# EAGLE library part UC_ATSAMD11C14A-SSUT (library fab)
MCU 32-Bit SAM D11 ARM Cortex M0+ RISC 16KB Flash 1.8V/2.5V/3.3V 14-Pin SOIC T/R Check prices <https://pricing.snapeda.com/parts/ATSAMD11C14A-SSUT/Microchip/view-part?ref=eda>
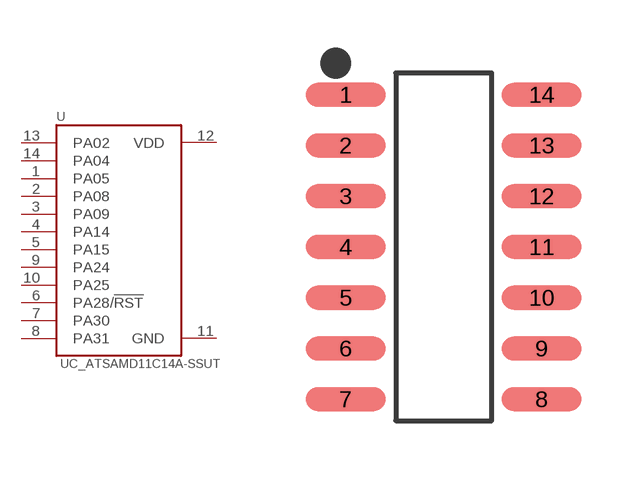
[diagram p25: symbol with the pads of SOIC127P600X160-14N; footprint SOIC127P600X160-14N]

Designator prefix U

## UC_ATSAMD11C14A-SSUT (AVAILABILITY: In Stock; DESCRIPTION: ARM® Cortex®-M0+ SAM D11C Microcontroller IC 32-Bit 48MHz 16KB (16K x 8) FLASH 14-SOIC; MF: Microchip; MP: ATSAMD11C14A-SSUT; PACKAGE: SOIC-14 Microchip; PRICE: None; PURCHASE-URL: https://pricing.snapeda.com/search/part/ATSAMD11C14A-SSUT/?ref=eda)  [SOIC127P600X160-14N]
1  PA05
2  PA08
3  PA09
4  PA14
5  PA15
6  PA28/!RST
7  PA30
8  PA31
9  PA24
10  PA25
11  GND  pwr
12  VDD  pwr
13  PA02
14  PA04

## Footprint SOIC127P600X160-14N (pad centres in mm)
smd 2 x 0.6: 1 -2.45,3.81; 2 -2.45,2.54; 3 -2.45,1.27; 4 -2.45,0; 5 -2.45,-1.27; 6 -2.45,-2.54; 7 -2.45,-3.81; 8 2.45,-3.81; 9 2.45,-2.54; 10 2.45,-1.27; 11 2.45,0; 12 2.45,1.27; 13 2.45,2.54; 14 2.45,3.81